# Altium footprint library TO-247-2.PcbLib: 1 footprints
Each footprint in its own frame and in the unit in brackets; x right, y up, seen from the top. Pads: shape width x height; smd on the part's side, far side on the other; paste and mask are expansions set on the pad; w line width, h text height; cw(c..) or ccw(c..) is an arc to the next point about the centre after c.
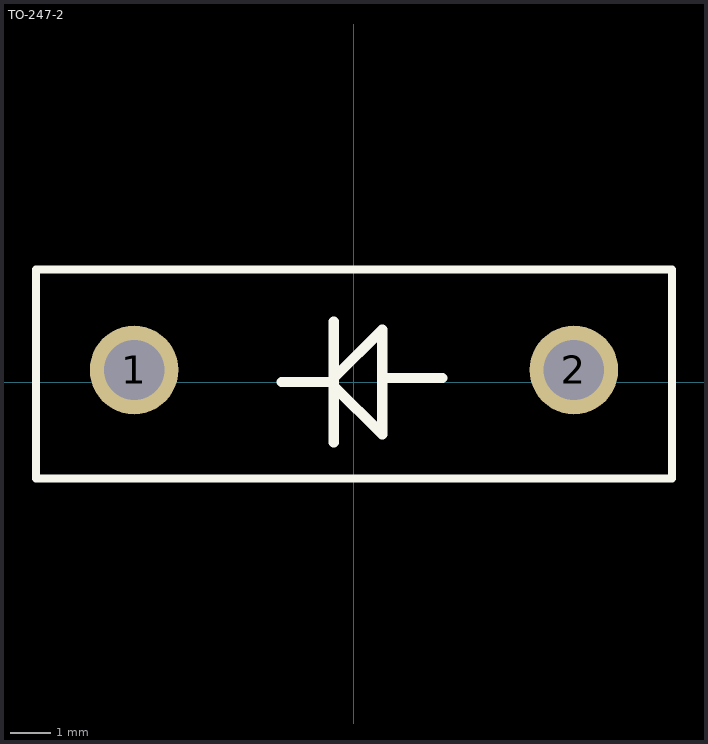
[diagram p0: the footprint, top view; thin cyan lines are the x and y axes]

## TO-247-2 [mm]
height 1.1
pads (2):
  round 2.2 hole 1.5: 1(-5.46,0.3) 2(5.46,0.3)
Top Overlay:
  lines w0.2: -7.9,-2.4 7.9,-2.4 7.9,2.8 -7.9,2.8 -7.9,-2.4
  lines w0.254: -1.8,0 -0.5,0 -0.5,0.1 0.7,1.3 0.7,-1.3 -0.5,-0.1 ; -0.5,-1.5 -0.5,1.5 ; 0.8,0.1 2.2,0.1
Top Assembly:
  lines w0.1: -7.9,-2.4 -7.9,2.8 7.85,2.8 7.85,1.869 7.85,-1.044 7.85,-2.4 -7.9,-2.4
  text "'.Designator'" at 0,0 h0.7
3D body "User Library-TO-247-2_PIN.STEP": height 30.33, standoff -5.73, extent -7.62,-2.286 7.62,2.311